# Altium footprint library Miscellaneous Devices.PcbLib: 154 footprints (part 10 of 10)
Each footprint in its own frame and in the unit in brackets; x right, y up, seen from the top. Pads: shape width x height; smd on the part's side, far side on the other; paste and mask are expansions set on the pad; w line width, h text height; cw(c..) or ccw(c..) is an arc to the next point about the centre after c.
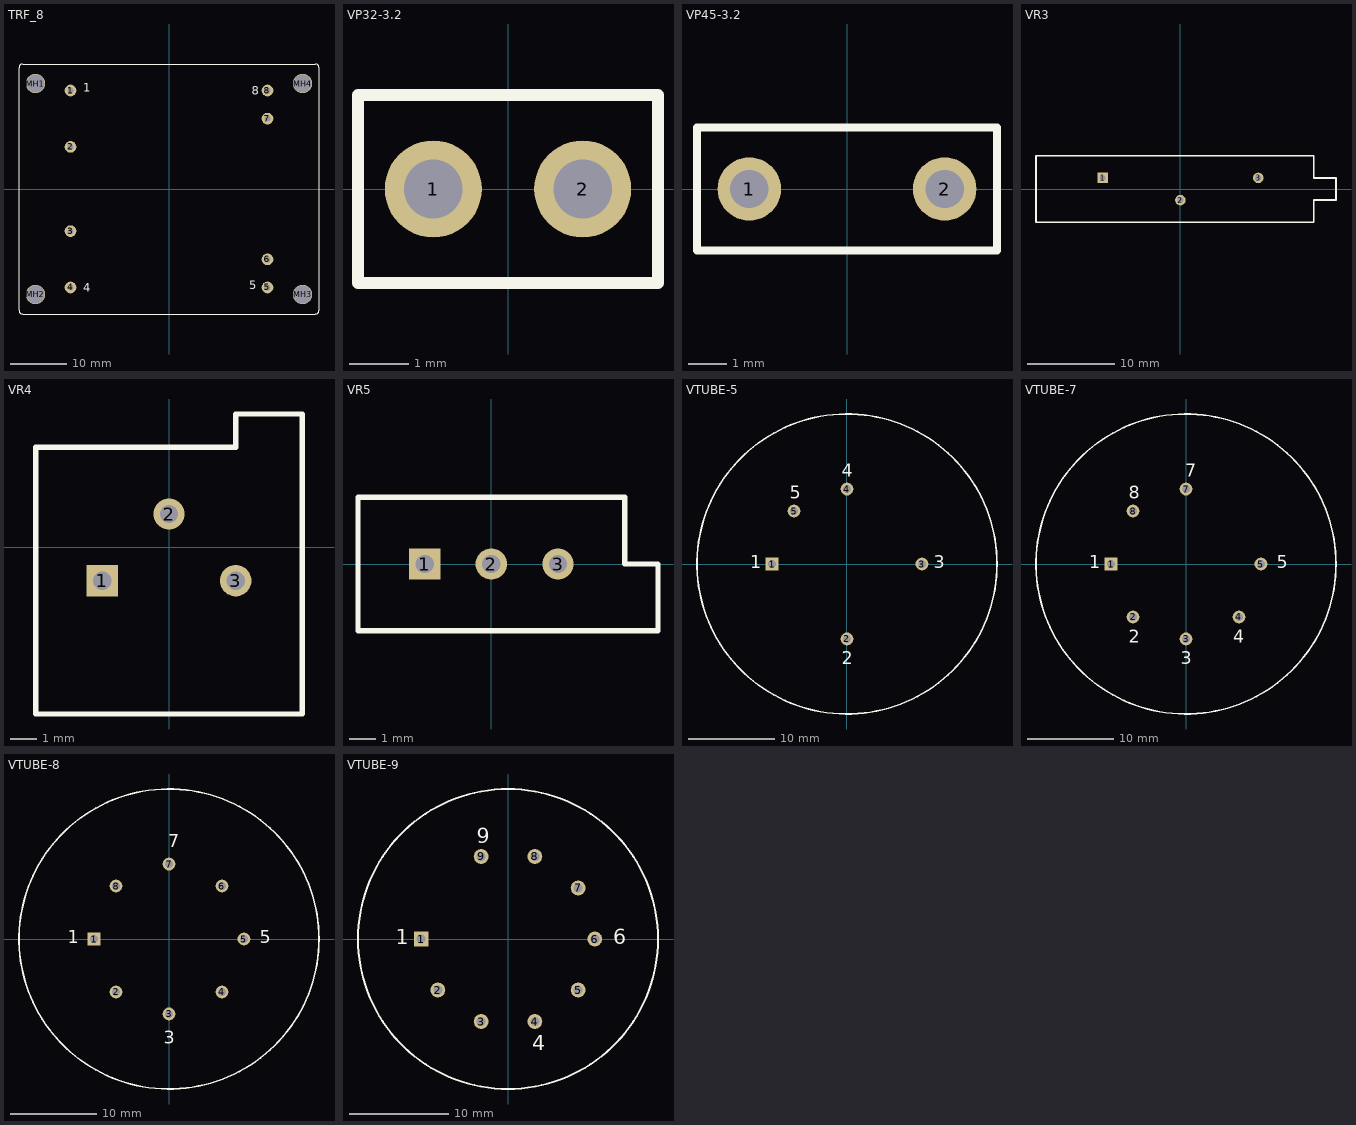
[diagram p9: the footprints below, top view; thin cyan lines are the x and y axes]

## TRF_8 [mil] "Buck-boost Transformer (Ideal); 8 Leads"
pads (12):
  round 82 hole 42: 1(-689.17,689.17) 2(-689.17,295) 3(-689.17,-295) 4(-689.17,-689.17) 5(689.17,-689.17) 6(689.17,-492.5) 7(689.17,492.5) 8(689.17,689.17)
  round 135 hole 125: MH1(-935,738.33) MH2(-935,-738.33) MH3(935,-738.33) MH4(935,738.33)
Top Overlay:
  lines w8: -1050,-850 ccw(c-1025,-850) -1025,-875 1025,-875 ccw(c1025,-850) 1050,-850 1050,850 ccw(c1025,850) 1025,875 -1025,875 ccw(c-1025,850) -1050,850 -1050,-850
  text "4" at -600,-720 h59.06
  text "8" at 580,660 h59.06
  text "5" at 560,-700 h59.06
  text "1" at -600,680 h59.06

## VP32-3.2 [mm] "Capacitor, Ceramic, Thru-Hole, Dipped Radial; Body 5.1 x 3.2 mm (WxT) Pin Spacing 2.54 mm (typ)"
height 6
pads (2):
  round 1.65 hole 1: 1(-1.27,0) 2(1.27,0)
Top Overlay:
  lines w0.2: -2.55,-1.6 -2.55,1.6 2.55,1.6 2.55,-1.6 -2.55,-1.6

## VP45-3.2 [mm] "Capacitor, Ceramic, Thru-Hole, Dipped Radial; Body 7.8 x 3.2 mm (WxT) Pin Spacing 5.08 mm (typ)"
height 6
pads (2):
  round 1.65 hole 1: 1(-2.54,0) 2(2.54,0)
Top Overlay:
  lines w0.2: -3.9,-1.6 -3.9,1.6 3.9,1.6 3.9,-1.6 -3.9,-1.6

## VR3 [mm] "Tapped Resistor; 3 Leads"
pads (3):
  rect 1.2x1.2 hole 0.7: 1(-8.89,1.27)
  round 1.2 hole 0.7: 2(0,-1.27) 3(8.89,1.27)
Top Overlay:
  lines w0.2: -16.51,-3.81 -16.51,3.81 15.24,3.81 15.24,1.27 17.78,1.27 17.78,-1.27 15.24,-1.27 15.24,-3.81 -16.51,-3.81

## VR4 [mm] "Feed-Through Capacitor; 3 Leads"
pads (3):
  rect 1.2x1.2 hole 0.7: 1(-2.54,-1.27)
  round 1.2 hole 0.7: 2(0,1.27) 3(2.54,-1.27)
Top Overlay:
  lines w0.2: -5.08,-6.35 5.08,-6.35 5.08,5.08 2.54,5.08 2.54,3.81 -5.08,3.81 -5.08,-6.35

## VR5 [mm] "Potentiometer; 3 Leads"
pads (3):
  rect 1.2x1.2 hole 0.7: 1(-2.54,0)
  round 1.2 hole 0.7: 2(0,0) 3(2.54,0)
Top Overlay:
  lines w0.2: -5.08,-2.54 6.35,-2.54 6.35,0 5.08,0 5.08,2.54 -5.08,2.54 -5.08,-2.54

## VTUBE-5 [mm] "Thyratron; 5 Leads"
pads (5):
  rect 1.5x1.5 hole 0.9: 1(-8.725,0)
  round 1.5 hole 0.9: 2(0,-8.725) 3(8.725,0) 4(0,8.725) 5(-6.17,6.17)
Top Overlay:
  circle w0.2: c0,0 r17.462
  text "1" at -11.265,-0.508 h1.5
  text "2" at -0.597,-11.684 h1.5
  text "4" at -0.597,10.16 h1.5
  text "5" at -6.693,7.62 h1.5
  text "3" at 10.071,-0.508 h1.5

## VTUBE-7 [mm] "Beam Power Pentode; 7 Leads"
height 108
pads (7):
  rect 1.5x1.5 hole 0.9: 1(-8.725,0)
  round 1.5 hole 0.9: 2(-6.17,-6.17) 3(0,-8.725) 4(6.17,-6.17) 5(8.725,0) 7(0,8.725) 8(-6.17,6.17)
Top Overlay:
  circle w0.2: c0,0 r17.462
  text "8" at -6.693,7.62 h1.5
  text "7" at -0.089,10.16 h1.5
  text "5" at 10.579,-0.508 h1.5
  text "4" at 5.499,-9.144 h1.5
  text "3" at -0.597,-11.684 h1.5
  text "2" at -6.693,-9.144 h1.5
  text "1" at -11.265,-0.508 h1.5

## VTUBE-8 [mm] "Medium Mu Dual Triode; 8 Leads"
height 108
pads (8):
  rect 1.5x1.5 hole 0.9: 1(-8.725,0)
  round 1.5 hole 0.9: 2(-6.17,-6.17) 3(0,-8.725) 4(6.17,-6.17) 5(8.725,0) 6(6.17,6.17) 7(0,8.725) 8(-6.17,6.17)
Top Overlay:
  circle w0.2: c0,0 r17.462
  text "1" at -11.773,-0.508 h1.5
  text "3" at -0.597,-12.192 h1.5
  text "5" at 10.579,-0.508 h1.5
  text "7" at -0.089,10.668 h1.5

## VTUBE-9 [mm] "Medium Mu Dual Triode; 9 Leads"
height 55.6
pads (9):
  rect 1.5x1.5 hole 0.9: 1(-8.725,0)
  round 1.5 hole 0.9: 2(-7.059,-5.128) 3(-2.696,-8.298) 4(2.696,-8.298) 5(7.059,-5.128) 6(8.725,0) 7(7.059,5.128) 8(2.696,8.298) 9(-2.696,8.298)
Top Overlay:
  circle w0.2: c0,0 r15.081
  text "1" at -11.265,-0.508 h1.5
  text "9" at -3.137,9.652 h1.5
  text "6" at 10.579,-0.508 h1.5
  text "4" at 2.451,-11.176 h1.5